# Altium footprint library 73300-0021.PcbLib: 1 footprints
Each footprint in its own frame and in the unit in brackets; x right, y up, seen from the top. Pads: shape width x height; smd on the part's side, far side on the other; paste and mask are expansions set on the pad; w line width, h text height; cw(c..) or ccw(c..) is an arc to the next point about the centre after c.
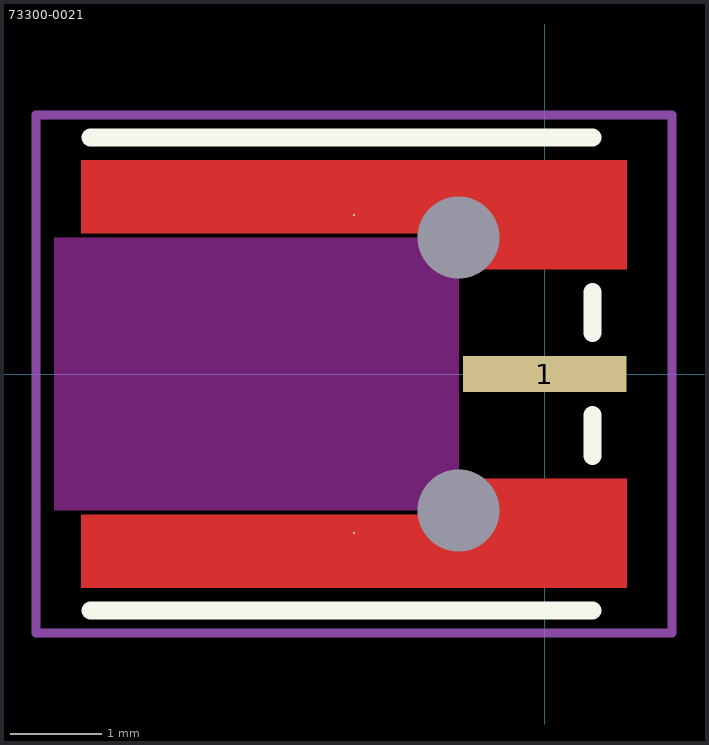
[diagram p0: the footprint, top view; thin cyan lines are the x and y axes]

## 73300-0021 [mm]
pads (5):
  rect 1.8x0.4 smd: 1(0,0)
  round 0.025 smd: 2(-2.1,1.75) 3(-2.1,-1.75)
  round 0 hole 0.9 unplated: 3(-0.95,-1.5) 3(-0.95,1.5)
Top Layer:
  region: 0.9,-1.15 0.9,-2.35 -5.1,-2.35 -5.1,-1.55 -0.9,-1.55 -0.9,-1.15
  region: 0.9,1.15 0.9,2.35 -5.1,2.35 -5.1,1.55 -0.9,1.55 -0.9,1.15
Top Overlay:
  lines w0.2: -5,-2.6 0.525,-2.6 ; -5,2.6 0.525,2.6 ; 0.525,-0.9 0.525,-0.45 ; 0.525,0.45 0.525,0.9
Keep-Out Layer:
  board cut-out: -5.4,1.5 -0.95,1.5 -0.95,-1.5 -5.4,-1.5
Top Courtyard:
  lines w0.1: -5.6,2.35 -5.6,2.85 ; -5.1,-2.85 -5.6,-2.85 ; 0.9,2.85 1.4,2.85 ; 1.4,-2.35 1.4,-2.85 ; -5.6,-2.85 -5.6,2.85 ; -5.6,-2.85 1.4,-2.85 ; -5.6,2.85 1.4,2.85 ; 1.4,-2.85 1.4,2.85
3D body "733000021.stp": height 1.79, standoff -1.39, extent -5.098,-1.978 0.515,2.009